# EAGLE library part MINI-USB-SHIELD- (library robotter_connector)
MINI USB Connector Source: http://www.hirose.co.jp/cataloge_hp/e24000019.pdf
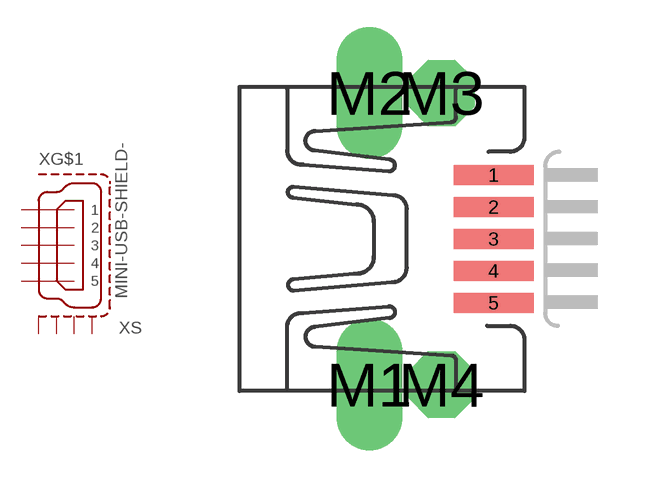
[diagram p14: symbol with the pads of UX60-MB-5S8; footprint UX60-MB-5S8]

Designator prefix X; gates G$1=MINI-USB S=USB-SHIELD

## MINI-USB-SHIELD-UX60-MB-5S8 (MOUSER: 798-UX60SCMB5S880; OC_FARNELL: unknown; OC_NEWARK: unknown; RS: 772-6926)  [UX60-MB-5S8]
1  G$1:1  in
2  G$1:2  in
3  G$1:3  in
4  G$1:4  in
5  G$1:5  in
M1  S:S1  pas
M2  S:S2  pas
M3  S:S3  pas
M4  S:S4  pas

## Footprint UX60-MB-5S8 (pad centres in mm)
MINI USB Connector HI-SPEED Certified Metal Shield Dip Type With Positioning Post Source: http://www.hirose.co.jp/cataloge_hp/e24000019.pdf
smd 2 x 0.5: 1 6.4,1.6; 2 6.4,0.8; 3 6.4,0; 4 6.4,-0.8; 5 6.4,-1.6
drill 1.1 long: M1 3.3,-3.65; M2 3.3,3.65
drill 1.1 octagon: M3 5.1,3.65; M4 5.1,-3.65